# EAGLE library part LM2678 (library monome-inc)
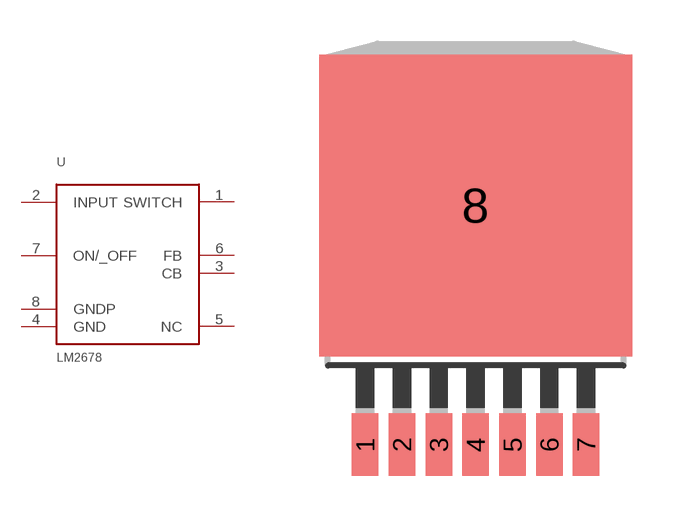
[diagram p5: symbol with the pads of TO263-7; footprint TO263-7]

Designator prefix -

## LM2678  [TO263-7]
1  SWITCH  pwr
2  INPUT  pwr
3  CB
4  GND  pwr
5  NC  nc
6  FB
7  ON/_OFF
8  GNDP  pwr

## Footprint TO263-7 (pad centres in mm)
smd 0.914 x 2.159: 1 -3.81,-5.715; 2 -2.54,-5.715; 3 -1.27,-5.715; 4 0,-5.715; 5 1.27,-5.715; 6 2.54,-5.715; 7 3.81,-5.715
smd 10.8 x 10.41: 8 0,2.54